# Altium integrated library Basics.IntLib: 11 symbols
Pins are listed as number, name and electrical type; pins without a type are passive.

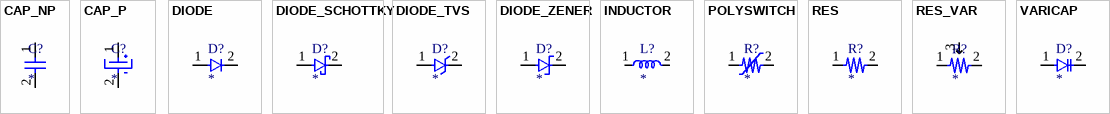
[diagram p0: symbols CAP_NP to VARICAP]

## CAP_NP
designator C?
Not polarized capacitor
footprint C_0805 (Chip Capacitor, 2-Leads, Body 2.00x1.25mm)
footprint C_1206
pins: 1, 2

## CAP_P
designator C?
Polarized capacitor
pins: 1, 2

## DIODE
designator D?
Common diode
footprint D_SMA
pins: 1, 2

## DIODE_SCHOTTKY
designator D?
Schottky diode
pins: 1, 2

## DIODE_TVS
designator D?
Transient Voltage Supression diode
pins: 1, 2

## DIODE_ZENER
designator D?
Zener diode
pins: 1, 2

## INDUCTOR
designator L?
Inductor
pins: 1, 2

## POLYSWITCH
designator R?
POLYSWITCH
pins: 1, 2

## RES
designator R?
Resistor
footprint R_0805 (Chip Resistor, 2-Leads, Body 2.00x1.25mm, IPC Low Density)
pins: 1, 2

## RES_VAR
designator R?
Variable resistor
pins: 1, 2, 3

## VARICAP
designator D?
Capacitor variable. Es un semiconductor.
pins: 1, 2